# Altium footprint library Crystal.PcbLib: 180 footprints (part 8 of 12)
Each footprint in its own frame and in the unit in brackets; x right, y up, seen from the top. Pads: shape width x height; smd on the part's side, far side on the other; paste and mask are expansions set on the pad; w line width, h text height; cw(c..) or ccw(c..) is an arc to the next point about the centre after c.
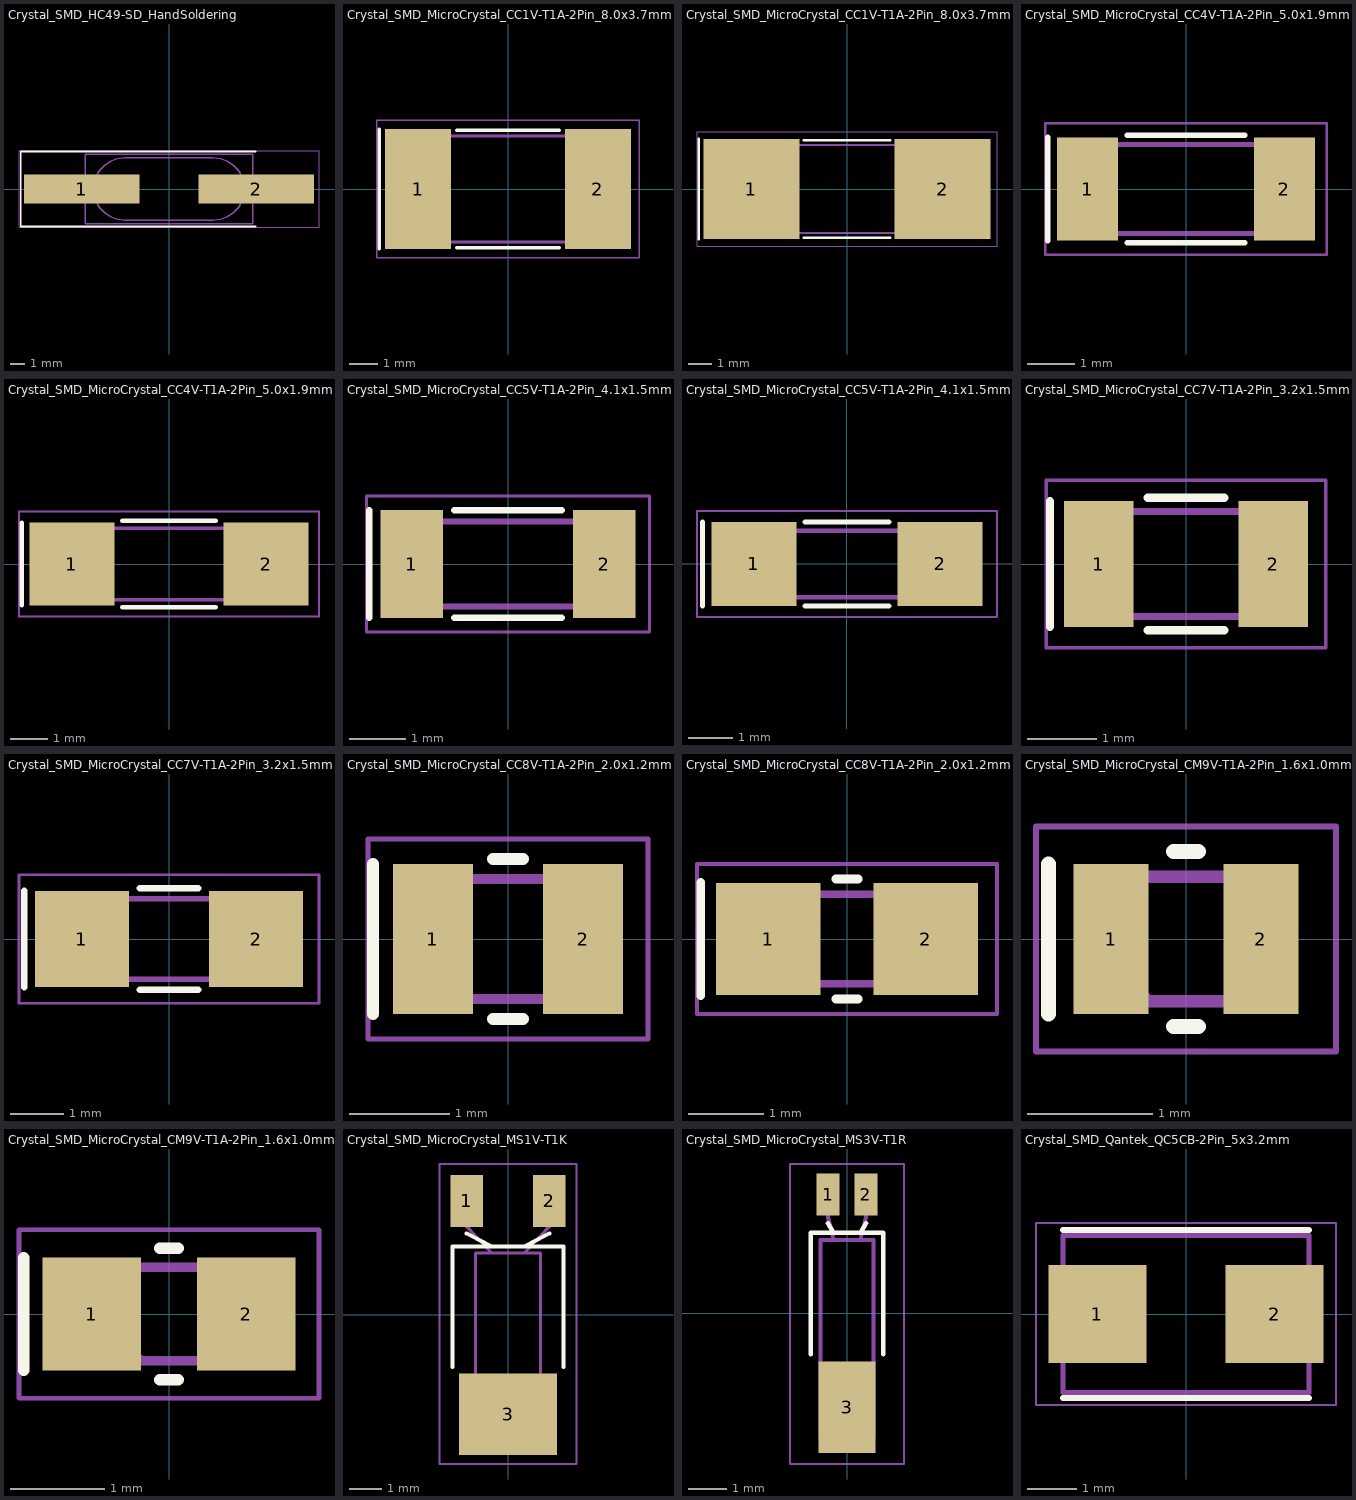
[diagram p7: the footprints below, top view; thin cyan lines are the x and y axes]

## Crystal_SMD_HC49-SD_HandSoldering [mm]
pads (2):
  rect 7.875x2 smd: 1(-5.937,0) 2(5.937,0)
F.SilkS:
  lines w0.12: 5.9,-2.55 -10.075,-2.55 -10.075,2.55 5.9,2.55
F.CrtYd:
  lines w0.05: -10.2,-2.6 -10.2,2.6 10.2,2.6 10.2,-2.6 -10.2,-2.6
F.Fab:
  lines w0.1: -5.7,-2.35 -5.7,2.35 5.7,2.35 5.7,-2.35 -5.7,-2.35 ; -3.015,-2.115 cw(c-3.015,0) -3.015,2.115 3.015,2.115 cw(c3.015,0) 3.015,-2.115 -3.015,-2.115
  text "'.Designator'" at -4.047,-0.84 h1
3D body "Crystal_SMD_HC49-SD.step": height 4, standoff 0, extent -6.25,-2.325 6.25,2.325

## Crystal_SMD_MicroCrystal_CC1V-T1A-2Pin_8.0x3.7mm [mm]
pads (2):
  rect 2.3x4.2 smd: 1(-3.15,0) 2(3.15,0)
F.SilkS:
  lines w0.12: -4.5,-2.1 -4.5,2.1 ; -1.8,-2.05 1.8,-2.05 ; -1.8,2.05 1.8,2.05
F.CrtYd:
  lines w0.05: -4.6,-2.4 -4.6,2.4 4.6,2.4 4.6,-2.4 -4.6,-2.4
F.Fab:
  lines w0.1: -4,-0.85 -3,-1.85 ; -4,-1.85 4,-1.85 4,1.85 -4,1.85 -4,-1.85
  text "'.Designator'" at -4.047,-0.84 h1
3D body "Crystal_SMD_MicroCrystal_CC1V-T1A-2Pin_8.0x3.7mm.step": height 1.74, standoff 0, extent -4.12,-1.85 4.12,1.85

## Crystal_SMD_MicroCrystal_CC1V-T1A-2Pin_8.0x3.7mm_HandSoldering [mm]
pads (2):
  rect 4.025x4.2 smd: 1(-4.012,0) 2(4.012,0)
F.SilkS:
  lines w0.12: -6.225,-2.1 -6.225,2.1 ; -1.8,-2.05 1.8,-2.05 ; -1.8,2.05 1.8,2.05
F.CrtYd:
  lines w0.05: -6.3,-2.4 6.3,-2.4 6.3,2.4 -6.3,2.4 -6.3,-2.4
F.Fab:
  lines w0.1: -4,-0.85 -3,-1.85 ; -4,-1.85 4,-1.85 4,1.85 -4,1.85 -4,-1.85
  text "'.Designator'" at -4.047,-0.84 h1
3D body "Crystal_SMD_MicroCrystal_CC1V-T1A-2Pin_8.0x3.7mm.step": height 1.74, standoff 0, extent -4.12,-1.85 4.12,1.85

## Crystal_SMD_MicroCrystal_CC4V-T1A-2Pin_5.0x1.9mm [mm]
pads (2):
  rect 1.3x2.2 smd: 1(-2.1,0) 2(2.1,0)
F.SilkS:
  lines w0.12: -2.95,-1.1 -2.95,1.1 ; -1.25,-1.15 1.25,-1.15 ; -1.25,1.15 1.25,1.15
F.CrtYd:
  lines w0.05: -3,-1.4 3,-1.4 3,1.4 -3,1.4 -3,-1.4
F.Fab:
  lines w0.1: -2.5,-0.45 -2,-0.95 ; -2.5,-0.95 2.5,-0.95 2.5,0.95 -2.5,0.95 -2.5,-0.95
  text "'.Designator'" at -4.047,-0.84 h1
3D body "Crystal_SMD_MicroCrystal_CC4V-T1A-2Pin_5.0x1.9mm.step": height 0.89, standoff 0, extent -2.575,-0.95 2.575,0.95

## Crystal_SMD_MicroCrystal_CC4V-T1A-2Pin_5.0x1.9mm_HandSoldering [mm]
pads (2):
  rect 2.275x2.2 smd: 1(-2.588,0) 2(2.588,0)
F.SilkS:
  lines w0.12: -3.925,-1.1 -3.925,1.1 ; -1.25,-1.15 1.25,-1.15 ; -1.25,1.15 1.25,1.15
F.CrtYd:
  lines w0.05: -4,-1.4 4,-1.4 4,1.4 -4,1.4 -4,-1.4
F.Fab:
  lines w0.1: -2.5,-0.45 -2,-0.95 ; -2.5,-0.95 2.5,-0.95 2.5,0.95 -2.5,0.95 -2.5,-0.95
  text "'.Designator'" at -4.047,-0.84 h1
3D body "Crystal_SMD_MicroCrystal_CC4V-T1A-2Pin_5.0x1.9mm.step": height 0.89, standoff 0, extent -2.575,-0.95 2.575,0.95

## Crystal_SMD_MicroCrystal_CC5V-T1A-2Pin_4.1x1.5mm [mm]
pads (2):
  rect 1.1x1.9 smd: 1(-1.7,0) 2(1.7,0)
F.SilkS:
  lines w0.12: -2.45,-0.95 -2.45,0.95 ; -0.95,-0.95 0.95,-0.95 ; -0.95,0.95 0.95,0.95
F.CrtYd:
  lines w0.05: -2.5,-1.2 -2.5,1.2 2.5,1.2 2.5,-1.2 -2.5,-1.2
F.Fab:
  lines w0.1: -2.05,-0.25 -1.55,-0.75 ; -2.05,-0.75 -2.05,0.75 2.05,0.75 2.05,-0.75 -2.05,-0.75
  text "'.Designator'" at -4.047,-0.84 h1
3D body "Crystal_SMD_MicroCrystal_CC5V-T1A-2Pin_4.1x1.5mm.step": height 0.89, standoff 0, extent -2.111,-0.75 2.111,0.75

## Crystal_SMD_MicroCrystal_CC5V-T1A-2Pin_4.1x1.5mm_HandSoldering [mm]
pads (2):
  rect 1.925x1.9 smd: 1(-2.113,0) 2(2.113,0)
F.SilkS:
  lines w0.12: -3.275,-0.95 -3.275,0.95 ; -0.95,-0.95 0.95,-0.95 ; -0.95,0.95 0.95,0.95
F.CrtYd:
  lines w0.05: -3.4,-1.2 -3.4,1.2 3.4,1.2 3.4,-1.2 -3.4,-1.2
F.Fab:
  lines w0.1: -2.05,-0.25 -1.55,-0.75 ; -2.05,-0.75 2.05,-0.75 2.05,0.75 -2.05,0.75 -2.05,-0.75
  text "'.Designator'" at -4.047,-0.84 h1
3D body "Crystal_SMD_MicroCrystal_CC5V-T1A-2Pin_4.1x1.5mm.step": height 0.89, standoff 0, extent -2.111,-0.75 2.111,0.75

## Crystal_SMD_MicroCrystal_CC7V-T1A-2Pin_3.2x1.5mm [mm]
pads (2):
  rect 1x1.8 smd: 1(-1.25,0) 2(1.25,0)
F.SilkS:
  lines w0.12: -1.95,-0.9 -1.95,0.9 ; -0.55,-0.95 0.55,-0.95 ; -0.55,0.95 0.55,0.95
F.CrtYd:
  lines w0.05: -2,-1.2 2,-1.2 2,1.2 -2,1.2 -2,-1.2
F.Fab:
  lines w0.1: -1.6,-0.25 -1.1,-0.75 ; -1.6,-0.75 1.6,-0.75 1.6,0.75 -1.6,0.75 -1.6,-0.75
  text "'.Designator'" at -2.833,-0.588 h0.7
3D body "Crystal_SMD_MicroCrystal_CC7V-T1A-2Pin_3.2x1.5mm.step": height 0.89, standoff 0, extent -1.648,-0.75 1.648,0.75

## Crystal_SMD_MicroCrystal_CC7V-T1A-2Pin_3.2x1.5mm_HandSoldering [mm]
pads (2):
  rect 1.75x1.8 smd: 1(-1.625,0) 2(1.625,0)
F.SilkS:
  lines w0.12: -2.7,-0.9 -2.7,0.9 ; -0.55,-0.95 0.55,-0.95 ; -0.55,0.95 0.55,0.95
F.CrtYd:
  lines w0.05: -2.8,-1.2 2.8,-1.2 2.8,1.2 -2.8,1.2 -2.8,-1.2
F.Fab:
  lines w0.1: -1.6,-0.25 -1.1,-0.75 ; -1.6,-0.75 1.6,-0.75 1.6,0.75 -1.6,0.75 -1.6,-0.75
  text "'.Designator'" at -2.833,-0.588 h0.7
3D body "Crystal_SMD_MicroCrystal_CC7V-T1A-2Pin_3.2x1.5mm.step": height 0.89, standoff 0, extent -1.648,-0.75 1.648,0.75

## Crystal_SMD_MicroCrystal_CC8V-T1A-2Pin_2.0x1.2mm [mm]
pads (2):
  rect 0.8x1.5 smd: 1(-0.75,0) 2(0.75,0)
F.SilkS:
  lines w0.12: -1.35,-0.75 -1.35,0.75 ; -0.15,-0.8 0.15,-0.8 ; -0.15,0.8 0.15,0.8
F.CrtYd:
  lines w0.05: -1.4,-1 -1.4,1 1.4,1 1.4,-1 -1.4,-1
F.Fab:
  lines w0.1: -1,-0.1 -0.5,-0.6 ; -1,-0.6 -1,0.6 1,0.6 1,-0.6 -1,-0.6
  text "'.Designator'" at -2.023,-0.42 h0.5
3D body "Crystal_SMD_MicroCrystal_CC8V-T1A-2Pin_2.0x1.2mm.step": height 0.66, standoff 0, extent -1.03,-0.6 1.03,0.6

## Crystal_SMD_MicroCrystal_CC8V-T1A-2Pin_2.0x1.2mm_HandSoldering [mm]
pads (2):
  rect 1.4x1.5 smd: 1(-1.05,0) 2(1.05,0)
F.SilkS:
  lines w0.12: -1.95,-0.75 -1.95,0.75 ; -0.15,-0.8 0.15,-0.8 ; -0.15,0.8 0.15,0.8
F.CrtYd:
  lines w0.05: -2,-1 -2,1 2,1 2,-1 -2,-1
F.Fab:
  lines w0.1: -1,-0.1 -0.5,-0.6 ; -1,-0.6 -1,0.6 1,0.6 1,-0.6 -1,-0.6
  text "'.Designator'" at -2.023,-0.42 h0.5
3D body "Crystal_SMD_MicroCrystal_CC8V-T1A-2Pin_2.0x1.2mm.step": height 0.66, standoff 0, extent -1.03,-0.6 1.03,0.6

## Crystal_SMD_MicroCrystal_CM9V-T1A-2Pin_1.6x1.0mm [mm]
pads (2):
  rect 0.6x1.2 smd: 1(-0.6,0) 2(0.6,0)
F.SilkS:
  lines w0.12: -1.1,-0.6 -1.1,0.6 ; -0.1,-0.7 0.1,-0.7 ; -0.1,0.7 0.1,0.7
F.CrtYd:
  lines w0.05: -1.2,-0.9 -1.2,0.9 1.2,0.9 1.2,-0.9 -1.2,-0.9
F.Fab:
  lines w0.1: -0.8,0 -0.3,-0.5 ; -0.8,-0.5 -0.8,0.5 0.8,0.5 0.8,-0.5 -0.8,-0.5
  text "'.Designator'" at -2.023,-0.42 h0.5
3D body "Crystal_SMD_MicroCrystal_CM9V-T1A-2Pin_1.6x1.0mm.step": height 0.49, standoff 0, extent -0.824,-0.5 0.824,0.5

## Crystal_SMD_MicroCrystal_CM9V-T1A-2Pin_1.6x1.0mm_HandSoldering [mm]
pads (2):
  rect 1.05x1.2 smd: 1(-0.825,0) 2(0.825,0)
F.SilkS:
  lines w0.12: -1.55,-0.6 -1.55,0.6 ; -0.1,-0.7 0.1,-0.7 ; -0.1,0.7 0.1,0.7
F.CrtYd:
  lines w0.05: -1.6,-0.9 1.6,-0.9 1.6,0.9 -1.6,0.9 -1.6,-0.9
F.Fab:
  lines w0.1: -0.8,0 -0.3,-0.5 ; -0.8,-0.5 -0.8,0.5 0.8,0.5 0.8,-0.5 -0.8,-0.5
  text "'.Designator'" at -2.023,-0.42 h0.5
3D body "Crystal_SMD_MicroCrystal_CM9V-T1A-2Pin_1.6x1.0mm.step": height 0.49, standoff 0, extent -0.824,-0.5 0.824,0.5

## Crystal_SMD_MicroCrystal_MS1V-T1K [mm]
pads (3):
  rect 1x1.6 smd: 1(-1.27,3.5) 2(1.27,3.5)
  rect 3x2.5 smd: 3(0,-3.05)
F.SilkS:
  lines w0.12: -1.7,-1.6 -1.7,2.1 1.7,2.1 1.7,-1.6 ; -1.27,2.5 -0.5,2.1 ; 0.5,2.1 1.27,2.5
F.CrtYd:
  lines w0.05: -2.1,-4.57 -2.1,4.63 2.1,4.63 2.1,-4.57 -2.1,-4.57
F.Fab:
  lines w0.1: -1.27,3.5 -1.27,2.7 -0.5,1.9 ; 0.5,1.9 1.27,2.7 1.27,3.5 ; -1,-4.2 1,-4.2 1,1.9 -1,1.9 -1,-4.2
  text "'.Designator'" at -2.428,-0.854 h0.6
3D body "Crystal_SMD_MicroCrystal_MS1V-T1K.step": height 2, standoff 0, extent -1.38,-4.2 1.38,3.824

## Crystal_SMD_MicroCrystal_MS3V-T1R [mm]
pads (3):
  rect 0.6x1.1 smd: 1(-0.5,3.125) 2(0.5,3.125)
  rect 1.5x2.4 smd: 3(0,-2.475)
F.SilkS:
  lines w0.12: -0.95,-1.075 -0.95,2.125 0.95,2.125 0.95,-1.075 ; -0.5,2.375 -0.35,2.125 ; 0.35,2.125 0.5,2.375
F.CrtYd:
  lines w0.05: -1.5,-3.97 1.5,-3.97 1.5,3.93 -1.5,3.93 -1.5,-3.97
F.Fab:
  lines w0.1: -0.5,3.125 -0.5,2.525 -0.35,1.925 ; 0.35,1.925 0.5,2.525 0.5,3.125 ; -0.7,-3.275 0.7,-3.275 0.7,1.925 -0.7,1.925 -0.7,-3.275
  text "'.Designator'" at -2.023,-0.495 h0.5

## Crystal_SMD_Qantek_QC5CB-2Pin_5x3.2mm [mm]
pads (2):
  rect 2x2 smd: 1(-1.8,0) 2(1.8,0)
F.SilkS:
  lines w0.12: -2.5,-1.71 2.5,-1.71 ; -2.5,1.71 2.5,1.71
F.CrtYd:
  lines w0.05: -3.05,-1.85 3.05,-1.85 3.05,1.85 -3.05,1.85 -3.05,-1.85
F.Fab:
  lines w0.1: -2.5,-1.6 -2.5,1.6 2.5,1.6 2.5,-1.6 -2.5,-1.6
  text "'.Designator'" at -4.047,1.86 h1